# Altium schematic symbol library TPS79225DBVR.SchLib: 1 symbol
Pins are listed as number, name and electrical type; pins without a type are passive.

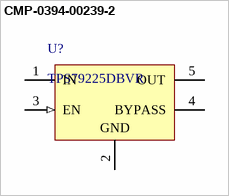
[diagram p0: symbol CMP-0394-00239-2]

## CMP-0394-00239-2
designator U?, comment TPS79225DBVR
Single Output High PSRR LDO, 100 mA, Fixed 2.5 V Output, 2.7 to 5.5 V Input, 5-pin SOT-23 (DBV), -40 to 125 degC, Green (RoHS & no Sb/Br); Manufacturer: Texas Instruments; Vdo(Typ)(mV): 55; Vin(Max)(V): 5.5; Vout Adj(Max)(V): 2.5; Vin(Min)(V): 2.7; Accuracy(%): 2; Iout(Max)(A): 0.1; SubFamily: Single Channel LDO; Iq(Typ)(mA): 0.2; Rating: Catalog; ComponentLink4Description: URL Link1; ComponentLink3Description: Package Specification; Mounting Technology: Surface Mount; ComponentLink2URL: http://www.ti.com/general/docs/lit/getliterature.tsp?genericPartNumber=TPS79225&fileType=pdf; ComponentLink1URL: http://www.ti.com/; PackageReference: DBV0005A; ComponentLink3URL: http://www.ti.com/litv/pdf/mpds018i; ComponentLink2Description: Datasheet; Fixed Output Options(V): 2.5; Vout Adj(Min)(V): 2.5; PackageVersion: 4073253-4/K; PartNumber: TPS79225DBVR; Eco-Plan: Green (RoHS & no Sb/Br); DatasheetVersion: SLVS337B; Code_JEDEC: MO-178; ComponentLink4URL: Samples URL:http://www.ti.com/product/tps79225#samples; PackageDescription: 5-Pin Plastic Small Outline, Body 1.60 Ãƒâ€” 2.90 mm, Pitch 0.95 mm; ComponentLink1Description: Manufacturer URL
footprint DBV0005A_M (SOT23, 5-Leads, Body 3.05x1.75mm, Pitch 0.95mm, IPC Low Density)
footprint DBV0005A_L (SOT23, 5-Leads, Body 3.05x1.75mm, Pitch 0.95mm, IPC High Density)
footprint DBV0005A_N (SOT23, 5-Leads, Body 3.05x1.75mm, Pitch 0.95mm, IPC Medium Density)
pins: 1 IN (power) "Input to the device", 2 GND (power) "Regulator ground", 3 EN (in) "Enable input that enables or shuts down the device. When EN goes to a logic high, the device is enabled. When the device goes to a logic low, the devices is in shutdown mode.", 4 BYPASS "An external bypass capacitor, connected to this terminal, in conjunction with an internal resistor, creates a low-pass filter to further reduce regulator noise.", 5 OUT (power) "Regulated output of the device"